# EAGLE library part LED-DRIVER (library HElicopterLib)
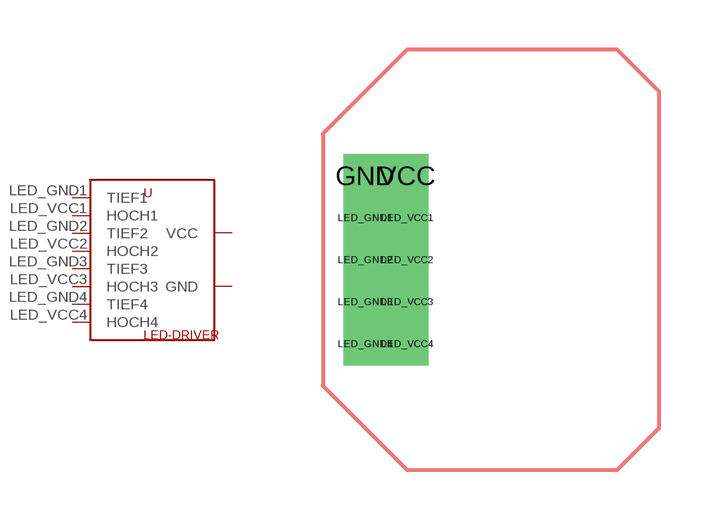
[diagram p5: symbol with the pads of LED-DRIVER; footprint LED-DRIVER]

Designator prefix -

## LED-DRIVER  [LED-DRIVER]
GND  GND
LED_GND1  TIEF1
LED_GND2  TIEF2
LED_GND3  TIEF3
LED_GND4  TIEF4
LED_VCC1  HOCH1
LED_VCC2  HOCH2
LED_VCC3  HOCH3
LED_VCC4  HOCH4
VCC  VCC

## Footprint LED-DRIVER (pad centres in mm)
drill 0.8 square: GND -2.54,3.81; LED_GND1 -2.54,2.54; LED_GND2 -2.54,1.27; LED_GND3 -2.54,0; LED_GND4 -2.54,-1.27; LED_VCC1 -1.27,2.54; LED_VCC2 -1.27,1.27; LED_VCC3 -1.27,0; LED_VCC4 -1.27,-1.27; VCC -1.27,3.81